# Altium schematic symbol library 1776275-3.SchLib: 1 symbol
Pins are listed as number, name and electrical type; pins without a type are passive.

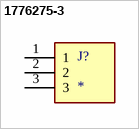
[diagram p0: symbol 1776275-3]

## 1776275-3
designator J?
MF: {'manufacturer': u'TE Connectivity'}; MP: 1776275-3; Price: None; Value: *; Availability: Unavailable; Package: None
footprint TE_1776275-3
pins: 1, 2, 3